# Altium footprint library PCB - CONNECTOR - SAMTEC IPL1-115-01-YYY-D-K.PCBLIB: 1 footprints
Each footprint in its own frame and in the unit in brackets; x right, y up, seen from the top. Pads: shape width x height; smd on the part's side, far side on the other; paste and mask are expansions set on the pad; w line width, h text height; cw(c..) or ccw(c..) is an arc to the next point about the centre after c.
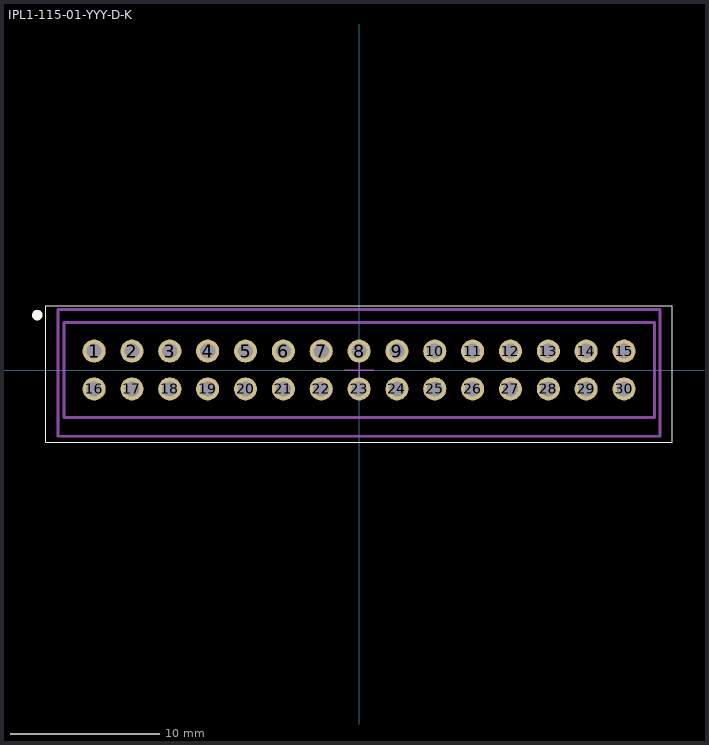
[diagram p0: the footprint, top view; thin cyan lines are the x and y axes]

## IPL1-115-01-YYY-D-K [mm]
pads (30):
  round 1.55 hole 1.02: 1(-17.78,1.27) 2(-15.24,1.27) 3(-12.7,1.27) 4(-10.16,1.27) 5(-7.62,1.27) 6(-5.08,1.27) 7(-2.54,1.27) 8(0,1.27) 9(2.54,1.27) 10(5.08,1.27) 11(7.62,1.27) 12(10.16,1.27) 13(12.7,1.27) 14(15.24,1.27) 15(17.78,1.27) 16(-17.78,-1.27) 17(-15.24,-1.27) 18(-12.7,-1.27) 19(-10.16,-1.27) 20(-7.62,-1.27) 21(-5.08,-1.27) 22(-2.54,-1.27) 23(0,-1.27) 24(2.54,-1.27) 25(5.08,-1.27) 26(7.62,-1.27) 27(10.16,-1.27) 28(12.7,-1.27) 29(15.24,-1.27) 30(17.78,-1.27)
Top Overlay:
  circle w0.5: c-21.59,3.683 r0.1
  lines w0.05: -21.01,-4.854 21.01,-4.854 21.01,4.318 -21.01,4.318 -21.01,-4.854
Top Assembly:
  lines w0.2: -19.81,-3.175 19.81,-3.175 19.81,3.175 -19.81,3.175 -19.81,-3.175
Top Courtyard:
  lines w0.2: -20.193,-4.445 20.193,-4.445 20.193,4.064 -20.193,4.064 -20.193,-4.445
Top Designator (Mech9):
  text ".Designator" at -4.998,-0.186 h1
Top Component Center:
  lines w0.1: -1,0 1,0 ; 0,-1 0,1
3D body "IPL1-115-01-L-D-K.stp": height 8.13, standoff -3.05, extent -19.812,-4.191 19.812,3.683